# EAGLE library part 08B0-1D1T-06-F (library NASA_LIB)
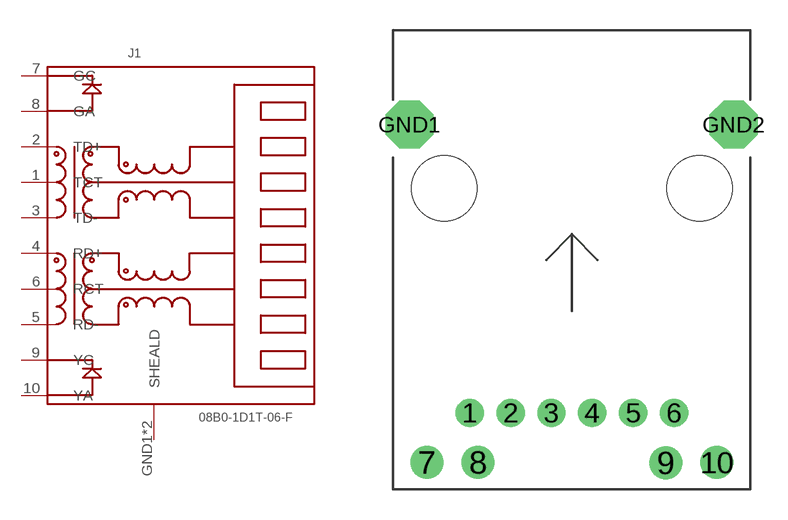
[diagram p40: symbol with the pads of 08B0-1D1T-06-F; footprint 08B0-1D1T-06-F]

Designator prefix J1

## 08B0-1D1T-06-F  [08B0-1D1T-06-F]
1  TCT
2  TD+
3  TD-
4  RD+
5  RD-
6  RCT
7  GC
8  GA
9  YC
10  YA
GND1  SHEALD
GND2  SHEALD

## Footprint 08B0-1D1T-06-F (pad centres in mm)
drill 0.9: 1 -5.08,0; 2 -3.048,0; 3 -1.016,0; 4 1.016,0; 5 3.048,0; 6 5.08,0
drill 1.1: 7 -7.214,-2.464; 8 -4.674,-2.464; 9 4.674,-2.489; 10 7.214,-2.464
drill 1.6 octagon: GND1 -8.077,14.351; GND2 8.052,14.351
hole 3.251 at -6.35,11.176
hole 3.251 at 6.35,11.176